# EAGLE library part MC100EP08DTG (library ON Semiconductor_By_element14_Batch_1)
3.3V / 5V ECL 2-Input Differential XOR/XNOR
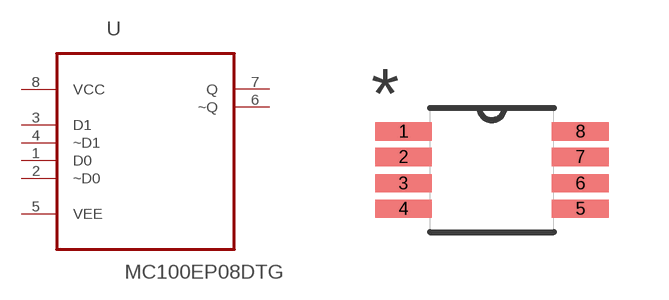
[diagram p97: symbol with the pads of SOP65P490X110-8N; footprint SOP65P490X110-8N]

Designator prefix U

## MC100EP08DTG (MPN: MC100EP08DTG; OC_FARNELL: 1167617; OC_NEWARK: 61K0831; PACKAGE: TSSOP-8; SUPPLIER: ON SEMICONDUCTOR)  [SOP65P490X110-8N]
1  D0  in
2  ~D0  in
3  D1  in
4  ~D1  in
5  VEE  pwr
6  ~Q  out
7  Q  out
8  VCC  pwr

## Footprint SOP65P490X110-8N (pad centres in mm)
smd 1.422 x 0.457: 1 -2.21,0.965; 2 -2.21,0.33; 3 -2.21,-0.33; 4 -2.21,-0.965; 5 2.21,-0.965; 6 2.21,-0.33; 7 2.21,0.33; 8 2.21,0.965